# Altium schematic symbol library MCU Schematics.SchLib: 2 symbols
Pins are listed as number, name and electrical type; pins without a type are passive.

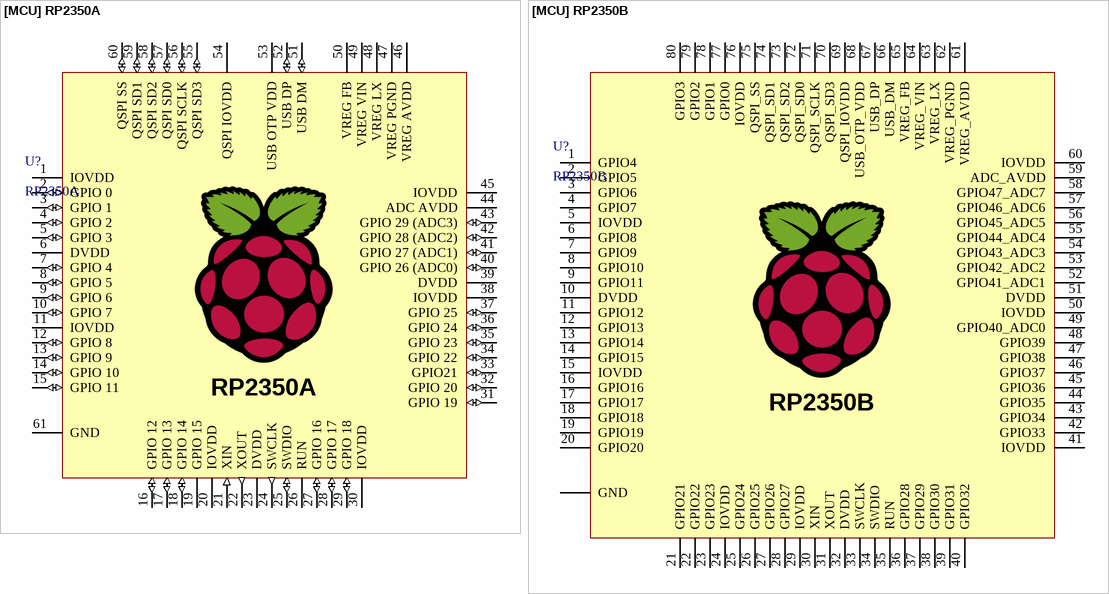
[diagram p0: symbols [MCU] RP2350A to [MCU] RP2350B]

## [MCU] RP2350A
designator U?, comment RP2350A
QFN-60 Package; Supplier 1: DigiKey; Supplier Part Number 1: 2648-SC1509-A4CT-ND
footprint [MCU] RP2350A
pins: 1 IOVDD (power), 2 GPIO 0 (io), 3 GPIO 1 (io), 4 GPIO 2 (io), 5 GPIO 3 (io), 6 DVDD (power), 7 GPIO 4 (io), 8 GPIO 5 (io), 9 GPIO 6 (io), 10 GPIO 7 (io), 11 IOVDD (power), 12 GPIO 8 (io), 13 GPIO 9 (io), 14 GPIO 10 (io), 15 GPIO 11 (io), 16 GPIO 12 (io), 17 GPIO 13 (io), 18 GPIO 14 (io), 19 GPIO 15 (power), 20 IOVDD (power), 21 XIN (in), 22 XOUT (out), 23 DVDD (power), 24 SWCLK (out), 25 SWDIO (io), 26 RUN, 27 GPIO 16 (io), 28 GPIO 17 (io), 29 GPIO 18 (io), 30 IOVDD (power), 31 GPIO 19 (io), 32 GPIO 20 (io), 33 GPIO21 (io), 34 GPIO 22 (io), 35 GPIO 23 (io), 36 GPIO 24 (io), 37 GPIO 25 (io), 38 IOVDD (power), 39 DVDD (power), 40 GPIO 26 (ADC0) (io), 41 GPIO 27 (ADC1) (io), 42 GPIO 28 (ADC2) (io), 43 GPIO 29 (ADC3) (io), 44 ADC AVDD (power), 45 IOVDD (power), 46 VREG AVDD (power), 47 VREG PGND (power), 48 VREG LX (power), 49 VREG VIN (power), 50 VREG FB (power), 51 USB DM (io), 52 USB DP (io), 53 USB OTP VDD (power), 54 QSPI IOVDD (power), 55 QSPI SD3 (io), 56 QSPI SCLK (io), 57 QSPI SD0 (io), 58 QSPI SD2 (io), 59 QSPI SD1 (io), 60 QSPI SS (io), 61 GND (power)

## [MCU] RP2350B
designator U?, comment RP2350B
QFN-80 Package; Supplier 1: DigiKey; Supplier Part Number 1: 2648-SC1510-A4CT-ND
footprint [MCU] RP2350B
pins: 1 GPIO4, 2 GPIO5, 3 GPIO6, 4 GPIO7, 5 IOVDD, 6 GPIO8, 7 GPIO9, 8 GPIO10, 9 GPIO11, 10 DVDD, 11 GPIO12, 12 GPIO13, 13 GPIO14, 14 GPIO15, 15 IOVDD, 16 GPIO16, 17 GPIO17, 18 GPIO18, 19 GPIO19, 20 GPIO20, 21 GPIO21, 22 GPIO22, 23 GPIO23, 24 IOVDD, 25 GPIO24, 26 GPIO25, 27 GPIO26, 28 GPIO27, 29 IOVDD, 30 XIN, 31 XOUT, 32 DVDD, 33 SWCLK, 34 SWDIO, 35 RUN, 36 GPIO28, 37 GPIO29, 38 GPIO30, 39 GPIO31, 40 GPIO32, 41 IOVDD, 42 GPIO33, 43 GPIO34, 44 GPIO35, 45 GPIO36, 46 GPIO37, 47 GPIO38, 48 GPIO39, 49 GPIO40_ADC0, 50 IOVDD, 51 DVDD, 52 GPIO41_ADC1, 53 GPIO42_ADC2, 54 GPIO43_ADC3, 55 GPIO44_ADC4, 56 GPIO45_ADC5, 57 GPIO46_ADC6, 58 GPIO47_ADC7, 59 ADC_AVDD, 60 IOVDD, 61 VREG_AVDD, 62 VREG_PGND, 63 VREG_LX, 64 VREG_VIN, 65 VREG_FB, 66 USB_DM, 67 USB_DP, 68 USB_OTP_VDD, 69 QSPI_IOVDD, 70 QSPI_SD3, 71 QSPI_SCLK, 72 QSPI_SD0, 73 QSPI_SD2, 74 QSPI_SD1, 75 QSPI_SS, 76 IOVDD, 77 GPIO0, 78 GPIO1, 79 GPIO2, 80 GPIO3, Pad GND